# EAGLE library part MODULE-RS485-3MM5-JACK-X2 (library 2021-07-02 OrangeHat Library)
Module RS485 Two 3.5mm Jack Dimensions: 38.715 x 27.305 mm Pinout: -GND -VCC -TXI -TXEN -RXEN# -RXO -SHIELD -SHIELD
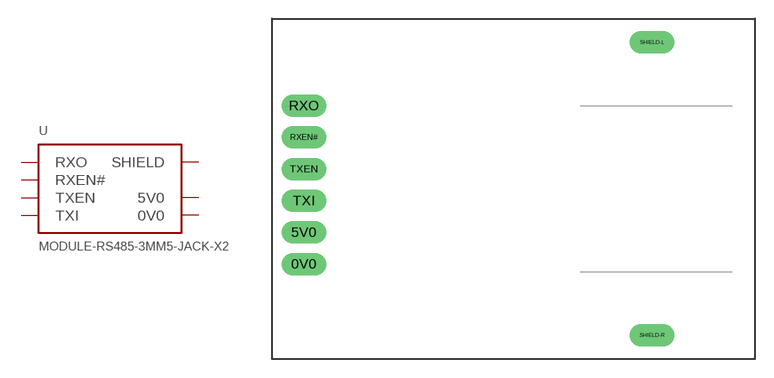
[diagram p13: symbol with the pads of MODULE-RS485-3MM5-JACK-X2; footprint MODULE-RS485-3MM5-JACK-X2]

Designator prefix -

## MODULE-RS485-3MM5-JACK-X2  [MODULE-RS485-3MM5-JACK-X2]
0V0  0V0  pwr
5V0  5V0  pwr
RXEN#  RXEN#
RXO  RXO
SHIELD-L  SHIELD  pas
SHIELD-R  SHIELD  pas
TXEN  TXEN
TXI  TXI

## Footprint MODULE-RS485-3MM5-JACK-X2 (pad centres in mm)
Module RS485 Two 3.5mm Jack Dimensions: 38.715 x 27.305 mm Pinout: -GND -VCC -TXI -TXEN -RXEN# -RXO -SHIELD -SHIELD
drill 1.2 pad 1.8 long: 0V0 2.54,7.62; 5V0 2.54,10.16; RXEN# 2.54,17.78; RXO 2.54,20.32; SHIELD-L 30.48,25.4; SHIELD-R 30.48,1.905; TXEN 2.54,15.24; TXI 2.54,12.7